# EAGLE library part S-WRAM (library snes_mb)
Work RAM 128Kx8 DRAM
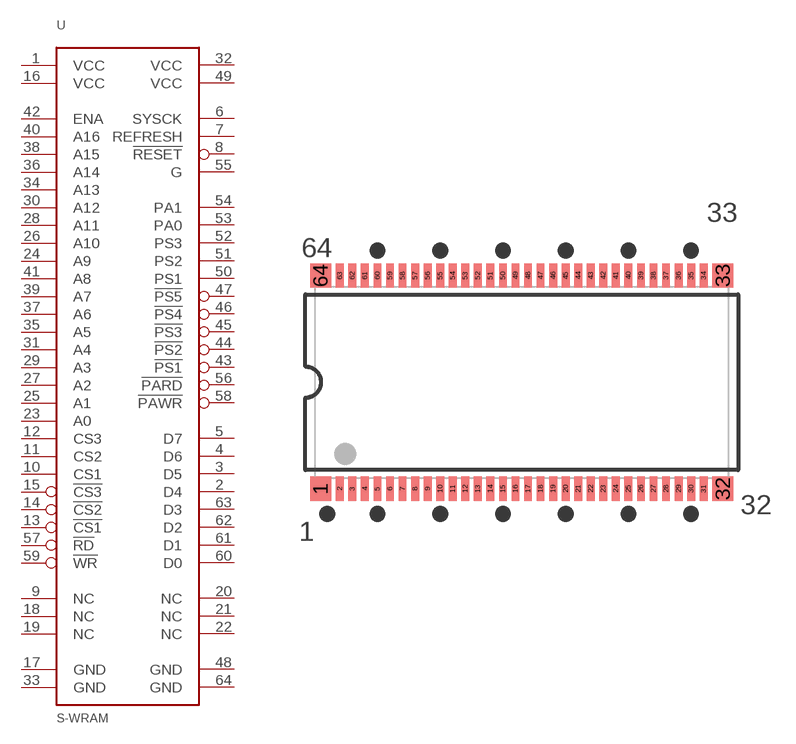
[diagram p12: symbol with the pads of SSO64; footprint SSO64]

Designator prefix U

## S-WRAM  [SSO64]
1  VCC  pwr
2  D4
3  D5
4  D6
5  D7
6  SYSCK
7  REFRESH
8  !RESET
9  NC  nc
10  CS1
11  CS2
12  CS3
13  !CS1
14  !CS2
15  !CS3
16  VCC  pwr
17  GND  pwr
18  NC  nc
19  NC  nc
20  NC  nc
21  NC  nc
22  NC  nc
23  A0
24  A9
25  A1
26  A10
27  A2
28  A11
29  A3
30  A12
31  A4
32  VCC  pwr
33  GND  pwr
34  A13
35  A5
36  A14
37  A6
38  A15
39  A7
40  A16
41  A8
42  ENA
43  !PS1
44  !PS2
45  !PS3
46  !PS4
47  !PS5
48  GND  pwr
49  VCC  pwr
50  PS1
51  PS2
52  PS3
53  PA0
54  PA1
55  G  nc
56  !PARD
57  !RD
58  !PAWR
59  !WR
60  D0
61  D1
62  D2
63  D3
64  GND  pwr

## Footprint SSO64 (pad centres in mm)
smd 1.35 x 1.55: 1 -12.825,-6.8; 32 12.825,-6.8; 33 12.825,6.8; 64 -12.825,6.8
smd 0.5 x 1.55: 2 -11.6,-6.8; 3 -10.8,-6.8; 4 -10,-6.8; 5 -9.2,-6.8; 6 -8.4,-6.8; 7 -7.6,-6.8; 8 -6.8,-6.8; 9 -6,-6.8; 10 -5.2,-6.8; 11 -4.4,-6.8; 12 -3.6,-6.8; 13 -2.8,-6.8; 14 -2,-6.8; 15 -1.2,-6.8; 16 -0.4,-6.8; 17 0.4,-6.8; 18 1.2,-6.8; 19 2,-6.8; 20 2.8,-6.8; 21 3.6,-6.8; 22 4.4,-6.8; 23 5.2,-6.8; 24 6,-6.8; 25 6.8,-6.8; 26 7.6,-6.8; 27 8.4,-6.8; 28 9.2,-6.8; 29 10,-6.8; 30 10.8,-6.8; 31 11.6,-6.8; 34 11.6,6.8; 35 10.8,6.8; 36 10,6.8; 37 9.2,6.8; 38 8.4,6.8; 39 7.6,6.8; 40 6.8,6.8; 41 6,6.8; 42 5.2,6.8; 43 4.4,6.8; 44 3.6,6.8; 45 2.8,6.8; 46 2,6.8; 47 1.2,6.8; 48 0.4,6.8; 49 -0.4,6.8; 50 -1.2,6.8; 51 -2,6.8; 52 -2.8,6.8; 53 -3.6,6.8; 54 -4.4,6.8; 55 -5.2,6.8; 56 -6,6.8; 57 -6.8,6.8; 58 -7.6,6.8; 59 -8.4,6.8; 60 -9.2,6.8; 61 -10,6.8; 62 -10.8,6.8; 63 -11.6,6.8